# Altium footprint library Footprint.PcbLib: 240 footprints (part 4 of 15)
Each footprint in its own frame and in the unit in brackets; x right, y up, seen from the top. Pads: shape width x height; smd on the part's side, far side on the other; paste and mask are expansions set on the pad; w line width, h text height; cw(c..) or ccw(c..) is an arc to the next point about the centre after c.
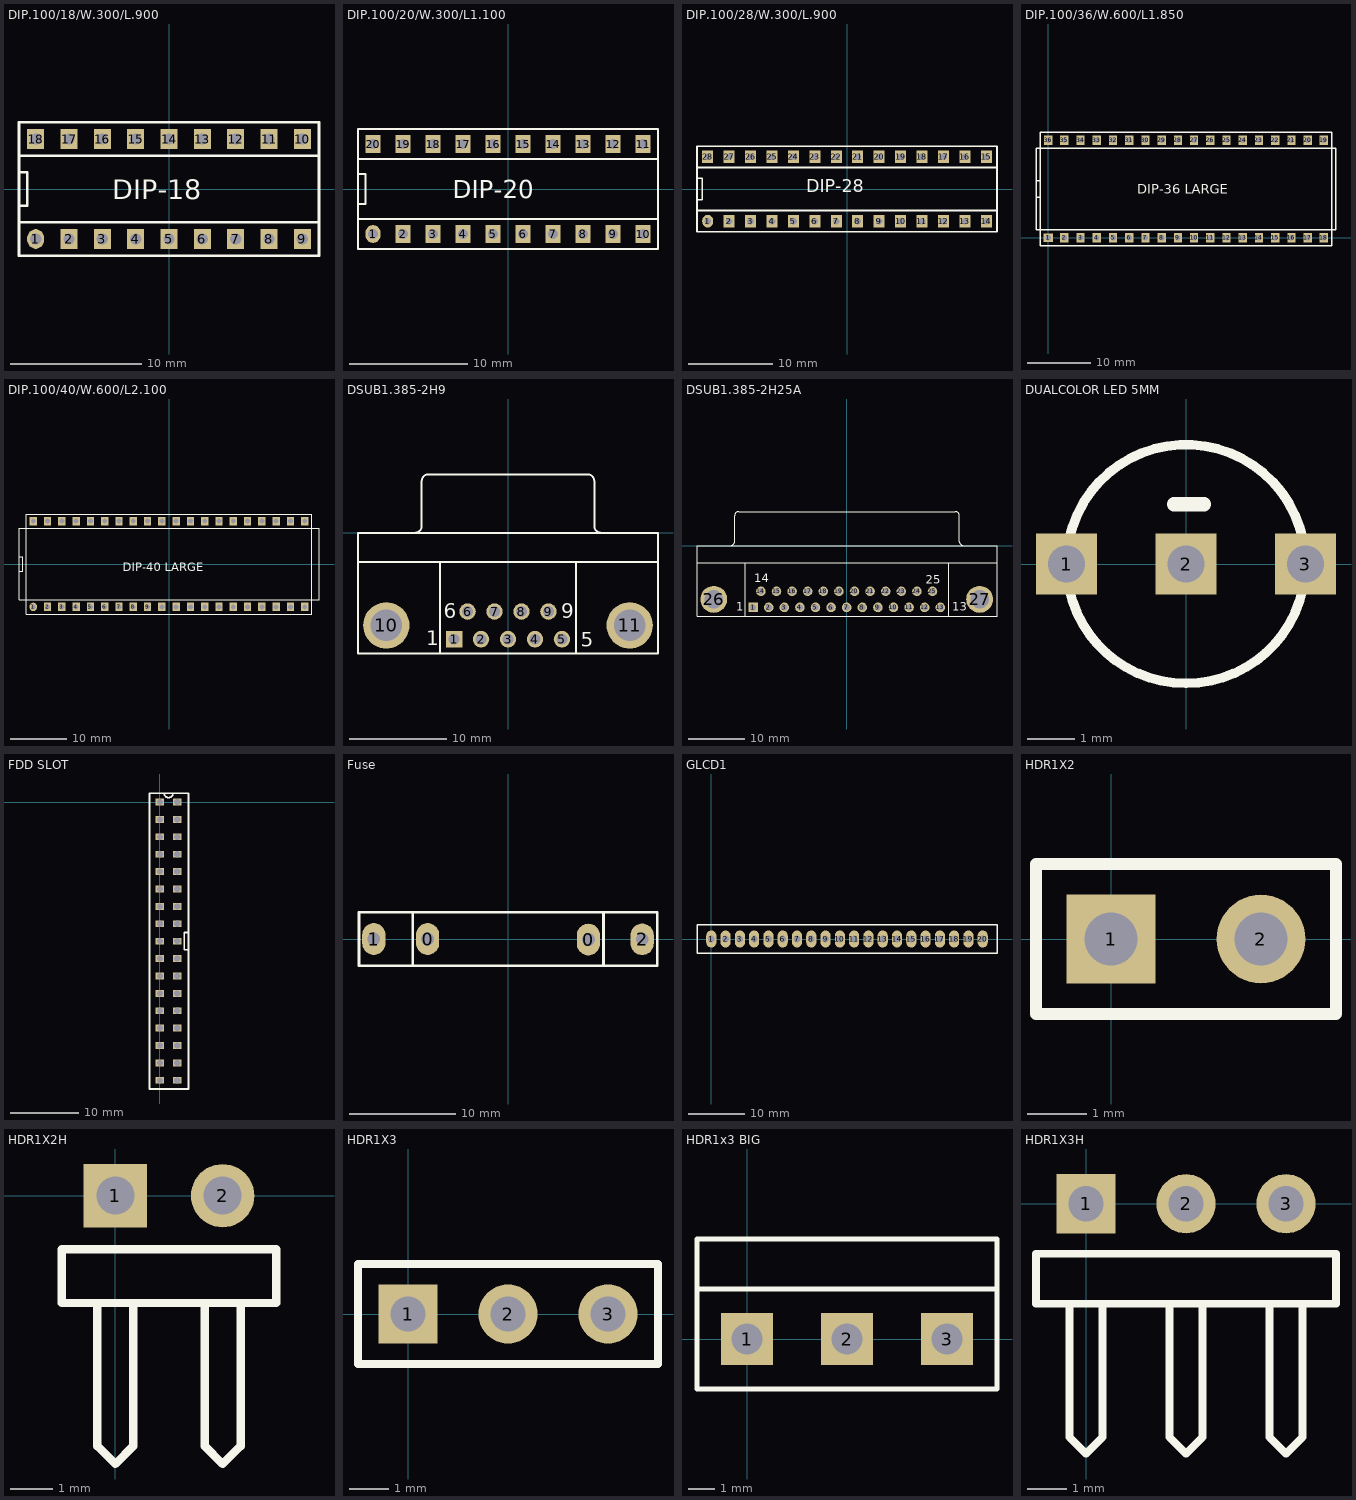
[diagram p3: the footprints below, top view; thin cyan lines are the x and y axes]

## DIP.100/18/W.300/L.900 [mil]
pads (18):
  oval 51x59 hole 34: 1(-400,-150)
  rect 51x59 / inner round 58 / far side rect 51x59 hole 34: 2(-300,-150) 3(-200,-150) 4(-100,-150) 5(0,-150) 6(100,-150) 7(200,-150) 8(300,-150) 9(400,-150) 10(400,150) 11(300,150) 12(200,150) 13(100,150) 14(0,150) 15(-100,150) 16(-200,150) 17(-300,150) 18(-400,150)
Top Overlay:
  lines w8: -450,-100 450,-100 ; -450,-100 -450,100 ; -450,-100 450,-100 ; -450,-100 -450,100 ; -450,-100 -450,-50 ; -450,-100 -450,-200 450,-200 450,-101 450,96.8 450,200 -450,200 -450,50 ; -450,-50 -425,-50 ; -450,-50 -425,-50 ; -450,-50 -450,50 ; -450,50 -425,50 ; -450,50 -425,50 ; -450,100 450,100 ; -450,100 450,100 ; -425,-50 -425,50 ; -425,-50 -425,50 ; 450,-100 450,100 ; 450,-100 450,100
  text "DIP-18" at -170,-30 h59.05
3D body: height 200, standoff -98.03, extent -452.56,-154.92 452.56,154.92

## DIP.100/20/W.300/L1.100 [mil]
pads (20):
  oval 51x59 hole 34: 1(-450,-150)
  rect 51x59 / inner round 58 / far side rect 51x59 hole 34: 2(-350,-150) 3(-250,-150) 4(-150,-150) 5(-50,-150) 6(50,-150) 7(150,-150) 8(250,-150) 9(350,-150) 10(450,-150) 11(450,150) 12(350,150) 13(250,150) 14(150,150) 15(50,150) 16(-50,150) 17(-150,150) 18(-250,150) 19(-350,150) 20(-450,150)
Top Overlay:
  lines w8: -500,-50 -475,-50 -475,50 -500,50 ; 500,-100 500,100 ; 500,-100 -500,-100 500,-100 ; 500,100 -500,100 500,100 ; -500,-200 -499.2,-200 500,-200 500,200 -500,200 -500,-200
  text "DIP-20" at -185,-30 h59.05
3D body: height 177.17, standoff -137.8, extent -503.93,-152.76 503.94,152.77

## DIP.100/28/W.300/L.900 [mm]
height 5.59
pads (28):
  oval 1.3x1.5 hole 0.8: 1(-16.51,-3.81)
  rect 1.3x1.5 hole 0.8: 2(-13.97,-3.81) 3(-11.43,-3.81) 4(-8.89,-3.81) 5(-6.35,-3.81) 6(-3.81,-3.81) 7(-1.27,-3.81) 8(1.27,-3.81) 9(3.81,-3.81) 10(6.35,-3.81) 11(8.89,-3.81) 12(11.43,-3.81) 13(13.97,-3.81) 14(16.51,-3.81) 15(16.51,3.81) 16(13.97,3.81) 17(11.43,3.81) 18(8.89,3.81) 19(6.35,3.81) 20(3.81,3.81) 21(1.27,3.81) 22(-1.27,3.81) 23(-3.81,3.81) 24(-6.35,3.81) 25(-8.89,3.81) 26(-11.43,3.81) 27(-13.97,3.81) 28(-16.51,3.81)
Top Overlay:
  lines w0.203: -17.78,-2.54 17.78,-2.54 ; -17.78,-2.54 17.78,-2.54 ; -17.78,-2.54 -17.78,-1.27 ; -17.78,-2.54 -17.78,-1.27 ; -17.78,-1.27 -17.78,1.27 ; -17.78,-1.27 -17.145,-1.27 ; -17.78,-1.27 -17.78,1.27 ; -17.78,-1.27 -17.145,-1.27 ; -17.78,1.27 -17.78,2.54 ; -17.78,1.27 -17.145,1.27 ; -17.78,1.27 -17.78,2.54 ; -17.78,1.27 -17.145,1.27 ; -17.78,2.54 17.78,2.54 ; -17.78,2.54 17.78,2.54 ; -17.145,-1.27 -17.145,1.27 ; -17.145,-1.27 -17.145,1.27 ; 17.78,-2.54 17.78,2.54 ; -17.78,-5.08 -17.78,5.08 17.78,5.08 17.78,-5.08 -17.78,-5.08
  text "DIP-28" at -4.826,-0.381 h1.5
3D body: height 5.08, standoff -2.49, extent -18,-3.935 18,3.935

## DIP.100/36/W.600/L1.850 [mil]
pads (36):
  rect 59x51 / inner rect 58x58 / far side rect 59x51 hole 34: 1(0,0)
  rect 51x59 / inner round 58 / far side rect 51x59 hole 34: 2(100,0) 3(200,0) 4(300,0) 5(400,0) 6(500,0) 7(600,0) 8(700,0) 9(800,0) 10(900,0) 11(1000,0) 12(1100,0) 13(1200,0) 14(1300,0) 15(1400,0) 16(1500,0) 17(1600,0) 18(1700,0) 19(1700,600) 20(1600,600) 21(1500,600) 22(1400,600) 23(1300,600) 24(1200,600) 25(1100,600) 26(1000,600) 27(900,600) 28(800,600) 29(700,600) 30(600,600) 31(500,600) 32(400,600) 33(300,600) 34(200,600) 35(100,600) 36(0,600)
Top Overlay:
  lines w8: -75,50 -75,250 ; -75,50 1775,50 ; -75,50 -75,250 ; -75,50 1775,50 ; -75,250 -50,250 ; -75,250 -75,350 ; -75,250 -50,250 ; -75,250 -75,350 ; -75,350 -50,350 ; -75,350 -75,550 ; -75,350 -50,350 ; -75,350 -75,550 ; -75,550 1775,550 ; -75,550 1775,550 ; -50,250 -50,350 ; -50,250 -50,350 ; -50,350 -50,650 1750,650 1750,-50 -50,-50 -50,350 ; 1775,50 1775,550 ; 1775,50 1775,550
  text "DIP-36 LARGE" at 550,270 h59.05

## DIP.100/40/W.600/L2.100 [mil]
pads (40):
  oval 51.18x59.06 hole 34: 1(-950,-300)
  rect 51x59 / inner round 58 / far side rect 51x59 hole 34: 2(-850,-300) 3(-750,-300) 4(-650,-300) 5(-550,-300) 6(-450,-300) 7(-350,-300) 8(-250,-300) 9(-150,-300) 10(-50,-300) 11(50,-300) 12(150,-300) 13(250,-300) 14(350,-300) 15(450,-300) 16(550,-300) 17(650,-300) 18(750,-300) 19(850,-300) 20(950,-300) 21(950,300) 22(850,300) 23(750,300) 24(650,300) 25(550,300) 26(450,300) 27(350,300) 28(250,300) 29(150,300) 30(50,300) 31(-50,300) 32(-150,300) 33(-250,300) 34(-350,300) 35(-450,300) 36(-550,300) 37(-650,300) 38(-750,300) 39(-850,300) 40(-950,300)
Top Overlay:
  lines w8: -1050,-250 1050,-250 ; -1050,-250 -1050,-50 ; -1050,-250 1050,-250 ; -1050,-250 -1050,-50 ; -1050,-50 -1050,50 ; -1050,-50 -1025,-50 ; -1050,-50 -1050,50 ; -1050,-50 -1025,-50 ; -1050,50 -1050,250 ; -1050,50 -1025,50 ; -1050,50 -1050,250 ; -1050,50 -1025,50 ; -1050,250 1050,250 ; -1050,250 1050,250 ; -1025,-50 -1025,50 ; -1025,-50 -1025,50 ; 1050,-250 1050,250 ; 1050,-250 1050,250 ; -1000,-350 1000,-350 1000,350 -1000,350 -1000,-350
  text "DIP-40 LARGE" at -325,-50 h59.05
3D body: height 224.41, standoff -101.57, extent -1032.48,-304.92 1032.48,304.93

## DSUB1.385-2H9 [mm] "Connector; D Subminiature; 9 Position; Right Angle; Pitch 1.385 mm"
height 12.75
pads (11):
  rect 1.69x1.69 hole 1.09: 1(-5.54,-10.92)
  round 1.69 hole 1.09: 2(-2.77,-10.92) 3(0,-10.92) 4(2.77,-10.92) 5(5.54,-10.92) 6(-4.155,-8.08) 7(-1.385,-8.08) 8(1.385,-8.08) 9(4.155,-8.08)
  round 4.76 hole 3.26: 10(-12.495,-9.5) 11(12.495,-9.5)
Top Overlay:
  lines w0.2: -15.4,-3 15.4,-3 ; -9.56,0.005 ccw(c-9.56,0.7) -8.865,0.7 -8.865,5.3 ; -8.86,5.305 cw(c-8.165,5.305) -8.165,6 8.165,6 cw(c8.165,5.305) 8.86,5.305 ; -7,-12.4 -7,-3 ; 7,-12.4 7,-3 ; 8.865,5.3 8.865,0.7 ccw(c9.56,0.7) 9.56,0.005 ; -15.4,-12.4 -15.4,0 15.4,0 15.4,-12.4 -15.4,-12.4
  text "1" at -8.382,-11.557 h1.5
  text "5" at 7.493,-11.684 h1.5
  text "9" at 5.461,-8.763 h1.5
  text "6" at -6.604,-8.763 h1.5
3D body: height 12.52, standoff -3.78, extent -15.43,-13.081 15.38,6.119

## DSUB1.385-2H25A [mm] "Connector; D Subminiature; 25 Position; Right Angle; Pitch 1.385 mm"
height 12.93
pads (27):
  rect 1.69x1.69 hole 1.09: 1(-16.566,-10.92)
  round 1.69 hole 1.09: 2(-13.805,-10.92) 3(-11.044,-10.92) 4(-8.283,-10.92) 5(-5.522,-10.92) 6(-2.761,-10.92) 7(0,-10.92) 8(2.761,-10.92) 9(5.522,-10.92) 10(8.283,-10.92) 11(11.044,-10.92) 12(13.805,-10.92) 13(16.566,-10.92) 14(-15.185,-8.08) 15(-12.424,-8.08) 16(-9.663,-8.08) 17(-6.902,-8.08) 18(-4.141,-8.08) 19(-1.38,-8.08) 20(1.381,-8.08) 21(4.142,-8.08) 22(6.903,-8.08) 23(9.664,-8.08) 24(12.425,-8.08) 25(15.186,-8.08)
  round 4.76 hole 3.26: 26(-23.526,-9.5) 27(23.526,-9.5)
Top Overlay:
  lines w0.2: -26.496,-3 26.604,-3 ; -20.541,0.005 ccw(c-20.541,0.7) -19.846,0.7 -19.846,5.3 ; -19.841,5.305 cw(c-19.146,5.305) -19.146,6 19.254,6 cw(c19.254,5.305) 19.949,5.305 ; -17.946,-12.5 -17.946,-3 ; 18.054,-12.5 18.054,-3 ; 19.954,5.3 19.954,0.7 ccw(c20.649,0.7) 20.649,0.005 ; -26.496,-12.5 26.604,-12.5 26.604,0 -26.496,0 -26.496,-12.5
  text "1" at -19.558,-11.557 h1.5
  text "13" at 18.669,-11.557 h1.5
  text "14" at -16.383,-6.477 h1.5
  text "25" at 13.97,-6.731 h1.5
3D body: height 12.57, standoff -4.58, extent -26.492,-12.497 26.548,8.003

## DUALCOLOR LED 5MM [mil]
pads (3):
  rect 51.17x51.17 / inner rect 52x52 / far side rect 51.17x51.17 hole 31: 1(-100,0)
  rect 51.17x51.17 / inner round 52 / far side rect 51.17x51.17 hole 31: 2(0,0) 3(100,0)
Top Overlay:
  lines w8: 80.64,59.14 cw(c0,0) 100,0 ; 100,0 ccw(c0,0) -100,0 ccw(c0,0) 0,-100 ccw(c0,0) 100,0
  lines w11.82: -10,50 15,50

## FDD SLOT [mm] "Khe cam cap o dia mem"
pads (34):
  rect 1.27x1 hole 0.889: 1(0,0) 2(0,-2.54) 3(0,-5.08) 4(0,-7.62) 5(0,-10.16) 6(0,-12.7) 7(0,-15.24) 8(0,-17.78) 9(0,-20.32) 10(0,-22.86) 11(0,-25.4) 12(0,-27.94) 13(0,-30.48) 14(0,-33.02) 15(0,-35.56) 16(0,-38.1) 17(0,-40.64) 18(2.54,-40.64) 19(2.54,-38.1) 20(2.54,-35.56) 21(2.54,-33.02) 22(2.54,-30.48) 23(2.54,-27.94) 24(2.54,-25.4) 25(2.54,-22.86) 26(2.54,-20.32) 27(2.54,-17.78) 28(2.54,-15.24) 29(2.54,-12.7) 30(2.54,-10.16) 31(2.54,-7.62) 32(2.54,-5.08) 33(2.54,-2.54) 34(2.54,0)
Top Overlay:
  lines w0.254: 4.191,-21.59 3.556,-21.59 3.556,-19.05 4.191,-19.05 ; -1.524,-41.91 -1.524,1.27 1.016,1.27 1.905,1.27 cw(c1.27,1.27) 0.635,1.27 1.524,1.27 4.191,1.27 4.191,-41.91 -1.524,-41.91

## Fuse [mm]
pads (4):
  oval 2.2x3 hole 1.2: 0(-7.62,0) 0(7.595,-0.051) 1(-12.7,0) 2(12.675,-0.025)
Top Overlay:
  lines w0.254: -9.017,-2.54 -9.017,2.54 ; 9.017,-2.54 9.017,2.54 ; -14.097,-2.54 -14.097,2.54 14.097,2.54 14.097,-2.54 -14.097,-2.54
3D body: height 8.84, standoff -4.01, extent -15.44,-2.952 15.44,2.952

## GLCD1 [mm]
pads (20):
  oval 1.8x3 hole 1.2: 1(0,0) 2(2.54,0) 3(5.08,0) 4(7.62,0) 5(10.16,0) 6(12.7,0) 7(15.24,0) 8(17.78,0) 9(20.32,0) 10(22.86,0) 11(25.4,0) 12(27.94,0) 13(30.48,0) 14(33.02,0) 15(35.56,0) 16(38.1,0) 17(40.64,0) 18(43.18,0) 19(45.72,0) 20(48.26,0)
Top Overlay:
  lines w0.254: -2.54,-2.54 -2.54,2.54 50.8,2.54 50.8,-2.54 -2.54,-2.54

## HDR1X2 [mm] "Connector; Header; 2 Position"
pads (2):
  rect 1.5x1.5 hole 0.9: 1(0,0)
  round 1.5 hole 0.9: 2(2.54,0)
Top Overlay:
  lines w0.2: -1.27,-1.27 3.81,-1.27 3.81,1.27 -1.27,1.27 -1.27,-1.27
3D body: height 1.5, standoff 0, extent -1.27,-1.27 1.27,1.27
3D body: height 7, standoff -1, extent -0.406,-0.406 0.39,0.392
3D body: height 7, standoff -1, extent 2.134,-0.406 2.93,0.392
3D body: height 1.5, standoff 0, extent 1.27,-1.27 3.81,1.27

## HDR1X2H [mm] "Connector; Header; 2 Position; Right Angle"
pads (2):
  rect 1.5x1.5 hole 0.9: 1(0,0)
  round 1.5 hole 0.9: 2(2.54,0)
Top Overlay:
  lines w0.2: -0.423,-2.54 -0.423,-5.927 0,-6.35 0.423,-5.927 0.423,-2.54 ; 2.117,-2.54 2.117,-5.927 2.54,-6.35 2.963,-5.927 2.963,-2.54 ; -1.27,-2.54 -1.27,-1.27 3.81,-1.27 3.81,-2.54 -1.27,-2.54
3D body: height 4.33, standoff -3, extent -1.27,-7 3.81,1.27

## HDR1X3 [mm] "Connector; Header; 3 Position"
pads (3):
  rect 1.5x1.5 hole 0.9: 1(0,0)
  round 1.5 hole 0.9: 2(2.54,0) 3(5.08,0)
Top Overlay:
  lines w0.2: -1.27,-1.27 -1.27,1.27 ; -1.27,-1.27 6.35,-1.27 6.35,1.27 -1.27,1.27 ; -1.27,-1.27 -1.27,1.27
3D body: height 1.5, standoff 0, extent -1.27,-1.27 1.27,1.27
3D body: height 7, standoff -1, extent -0.406,-0.406 0.39,0.392
3D body: height 1.5, standoff 0, extent 1.27,-1.27 3.81,1.27
3D body: height 7, standoff -1, extent 2.134,-0.406 2.93,0.392
3D body: height 1.5, standoff 0, extent 3.81,-1.27 6.35,1.27
3D body: height 7, standoff -1, extent 4.674,-0.406 5.47,0.392

## HDR1x3 BIG [mm] "3 chan cam 7805, BJT to, FET to..."
pads (3):
  rect 2x2 / inner round 1.575 / far side rect 2x2 hole 1.2: 1(0,0) 2(3.81,0) 3(7.62,0)
Top Overlay:
  lines w0.2: -1.905,1.905 9.525,1.905 ; -1.905,-1.905 9.525,-1.905 9.525,3.81 -1.905,3.81 -1.905,2.54 -1.905,-1.905

## HDR1X3H [mm] "Connector; Header; 3 Position; Right Angle"
pads (3):
  rect 1.5x1.5 hole 0.9: 1(0,0)
  round 1.5 hole 0.9: 2(2.54,0) 3(5.08,0)
Top Overlay:
  lines w0.2: -0.423,-2.54 -0.423,-5.927 0,-6.35 0.423,-5.927 0.423,-2.54 ; 2.117,-2.54 2.117,-5.927 2.54,-6.35 2.963,-5.927 2.963,-2.54 ; 4.657,-2.54 4.657,-5.927 5.08,-6.35 5.503,-5.927 5.503,-2.54 ; -1.27,-2.54 6.35,-2.54 6.35,-1.27 -1.27,-1.27 -1.27,-2.54
3D body: height 4.33, standoff -3, extent -1.27,-7 6.35,1.27